# Altium schematic symbol library BQ27510.SchLib: 1 symbol
Pins are listed as number, name and electrical type; pins without a type are passive.

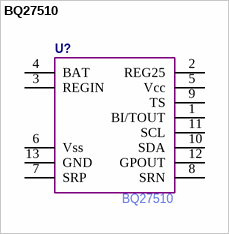
[diagram p0: symbol BQ27510]

## BQ27510
designator U?  Manufacturer Part Number: BQ27510  (hidden comment: *)
pins: 1 BI/TOUT, 2 REG25, 3 REGIN, 4 BAT, 5 Vcc, 6 Vss, 7 SRP, 8 SRN, 9 TS, 10 SDA, 11 SCL, 12 GPOUT, 13 GND